# Altium footprint library Collection_Paimin.PcbLib: 48 footprints (part 1 of 3)
Each footprint in its own frame and in the unit in brackets; x right, y up, seen from the top. Pads: shape width x height; smd on the part's side, far side on the other; paste and mask are expansions set on the pad; w line width, h text height; cw(c..) or ccw(c..) is an arc to the next point about the centre after c.
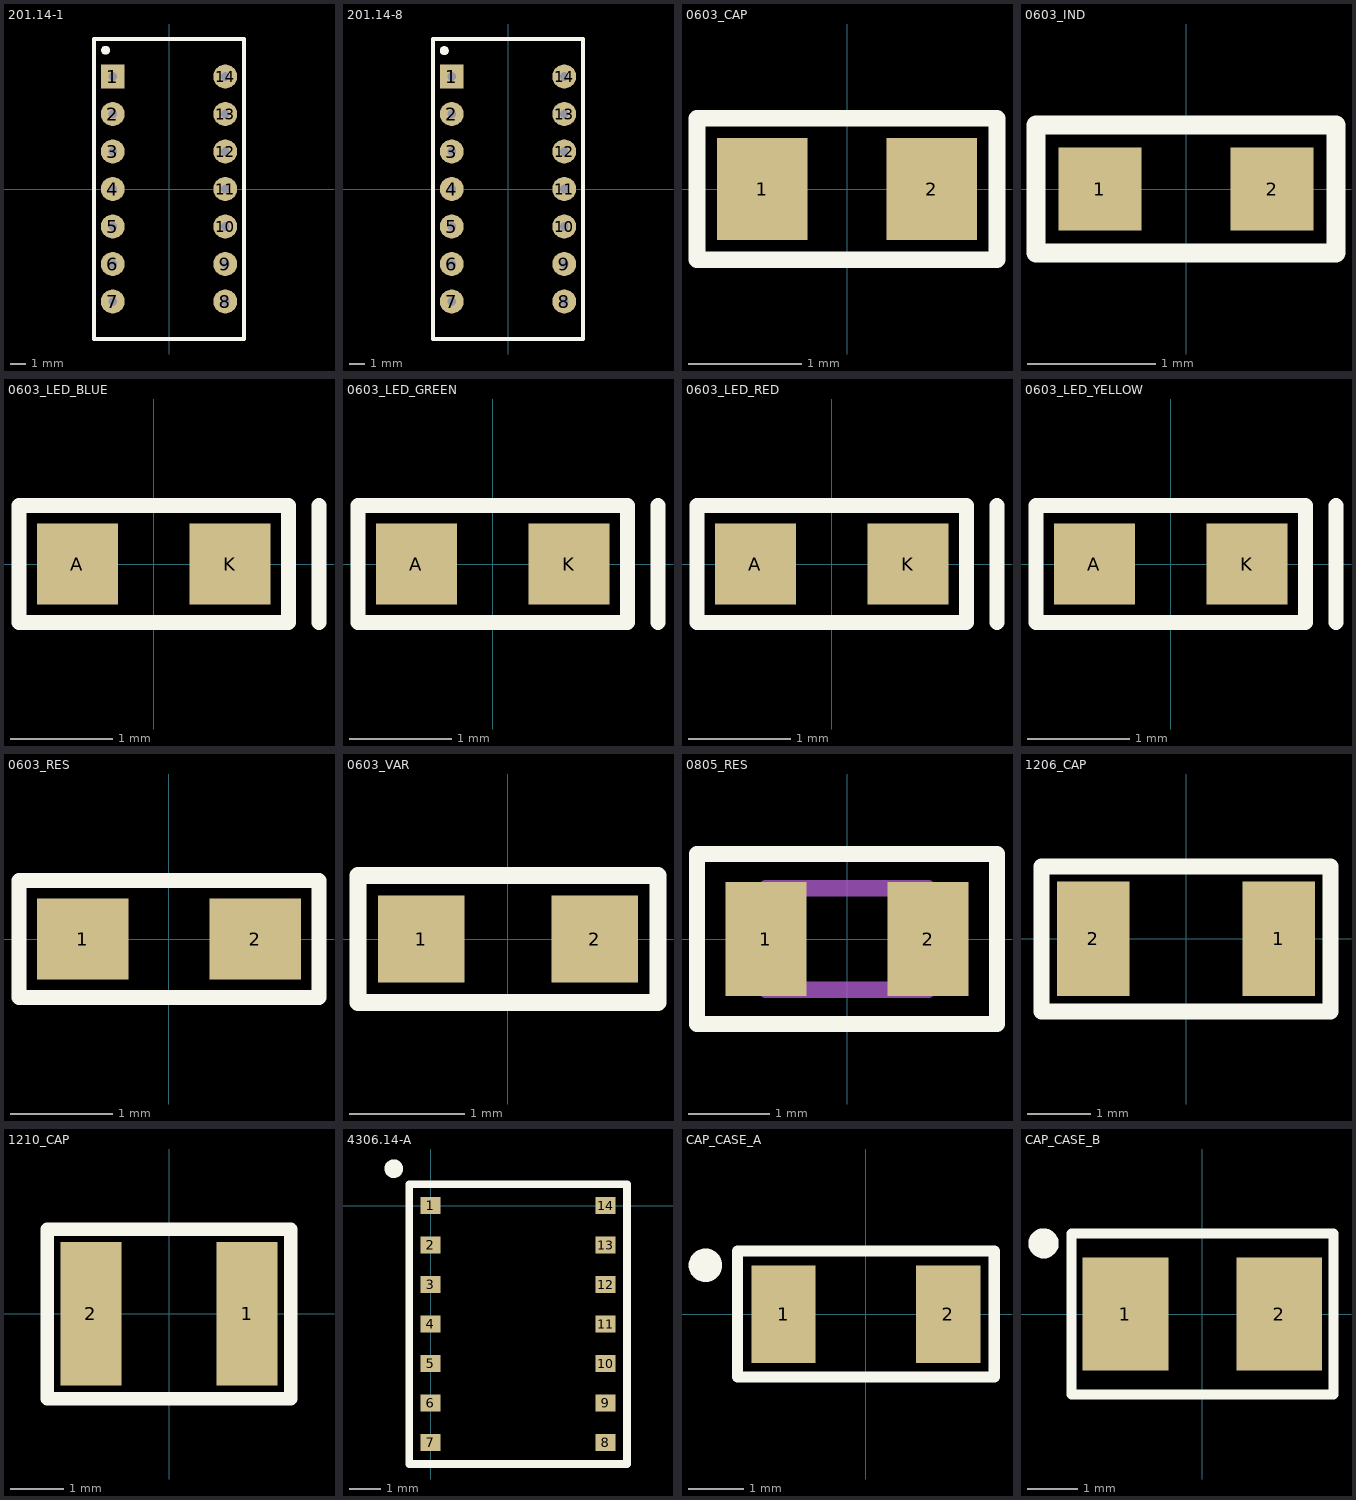
[diagram p0: the footprints below, top view; thin cyan lines are the x and y axes]

## 201.14-1 [mm]
height 5
pads (14):
  rect 1.6x1.6 / inner round 1.6 / far side rect 1.6x1.6 hole 0.6: 1(-3.75,7.5)
  round 1.6 hole 0.6: 2(-3.75,5) 3(-3.75,2.5) 4(-3.75,0) 5(-3.75,-2.5) 6(-3.75,-5) 7(-3.75,-7.5) 8(3.75,-7.5) 9(3.75,-5) 10(3.75,-2.5) 11(3.75,0) 12(3.75,2.5) 13(3.75,5) 14(3.75,7.5)
Top Overlay:
  circle w0.3: c-4.225,9.25 r0.15
  lines w0.254: -5,-10 -5,10 5,10 5,-10 -5,-10
3D body "201.14-1.stp": height 5.5, standoff -2.4, extent -3.92,-9.775 3.92,9.725

## 201.14-8 [mm]
height 5
pads (14):
  rect 1.6x1.6 / inner round 1.6 / far side rect 1.6x1.6 hole 0.6: 1(-3.75,7.5)
  round 1.6 hole 0.6: 2(-3.75,5) 3(-3.75,2.5) 4(-3.75,0) 5(-3.75,-2.5) 6(-3.75,-5) 7(-3.75,-7.5) 8(3.75,-7.5) 9(3.75,-5) 10(3.75,-2.5) 11(3.75,0) 12(3.75,2.5) 13(3.75,5) 14(3.75,7.5)
Top Overlay:
  circle w0.3: c-4.25,9.225 r0.15
  lines w0.254: -5,-10 -5,10 5,10 5,-10 -5,-10
3D body "201.14-8.stp": height 5.5, standoff -2.4, extent -3.875,-9.725 3.925,9.775

## 0603_CAP [mm]
height 0.8
pads (2):
  rect 0.8x0.9 smd: 1(-0.75,0) 2(0.75,0)
Top Overlay:
  lines w0.15: -1.325,-0.625 -1.325,0.625 1.325,0.625 1.325,-0.625 -1.325,-0.625
3D body "0603_CAP.step": height 0.8, standoff 0, extent -0.8,-0.4 0.8,0.4

## 0603_IND [mm]
height 0.9
pads (2):
  rect 0.65x0.65 smd: 1(-0.675,0) 2(0.675,0)
Top Overlay:
  lines w0.15: -1.175,-0.5 1.175,-0.5 1.175,0.5 -1.175,0.5 -1.175,-0.5
3D body "BLM18_0603.step": height 0.8, standoff 0, extent -0.8,-0.4 0.8,0.4

## 0603_LED_BLUE [mm]
height 0.8
pads (2):
  rect 0.8x0.8 smd: A(-0.75,0) K(0.75,0)
Top Overlay:
  lines w0.15: 1.625,-0.575 1.625,0.575 ; -1.325,-0.575 1.325,-0.575 1.325,0.575 -1.325,0.575 -1.325,-0.575
3D body "User Library-LED_0603_B.STEP": height 0.6, standoff 0, extent -0.8,-0.4 0.8,0.4

## 0603_LED_GREEN [mm]
height 0.8
pads (2):
  rect 0.8x0.8 smd: A(-0.75,0) K(0.75,0)
Top Overlay:
  lines w0.15: 1.625,-0.575 1.625,0.575 ; -1.325,-0.575 -1.325,0.575 1.325,0.575 1.325,-0.575 -1.325,-0.575
3D body "User Library-LED_0603_G.STEP": height 0.6, standoff 0, extent -0.8,-0.4 0.8,0.4

## 0603_LED_RED [mm]
height 0.8
pads (2):
  rect 0.8x0.8 smd: A(-0.75,0) K(0.75,0)
Top Overlay:
  lines w0.15: 1.625,-0.575 1.625,0.575 ; -1.325,-0.575 1.325,-0.575 1.325,0.575 -1.325,0.575 -1.325,-0.575
3D body "User Library-LED_0603_R.STEP": height 0.6, standoff 0, extent -0.8,-0.4 0.8,0.4

## 0603_LED_YELLOW [mm]
height 0.8
pads (2):
  rect 0.8x0.8 smd: A(-0.75,0) K(0.75,0)
Top Overlay:
  lines w0.15: 1.625,-0.575 1.625,0.575 ; -1.325,-0.575 -1.325,0.575 1.325,0.575 1.325,-0.575 -1.325,-0.575
3D body "User Library-LED_0603_Y.STEP": height 0.6, standoff 0, extent -0.8,-0.4 0.8,0.4

## 0603_RES [mm]
height 0.55
pads (2):
  rect 0.9x0.8 smd: 1(-0.85,0) 2(0.85,0)
Top Overlay:
  lines w0.15: -1.475,-0.575 1.475,-0.575 1.475,0.575 -1.475,0.575 -1.475,-0.575
3D body "0603_RES.step": height 0.45, standoff 0, extent -0.825,-0.41 0.775,0.41

## 0603_VAR [mm]
height 0.51
pads (2):
  rect 0.75x0.75 smd: 1(-0.75,0) 2(0.75,0)
Top Overlay:
  lines w0.15: -1.3,-0.55 1.3,-0.55 1.3,0.55 -1.3,0.55 -1.3,-0.55
3D body "CG0603MLC-05E.stp": height 0.55, standoff 0, extent -0.8,-0.4 0.8,0.4

## 0805_RES [mm] "Р1-8 (Эркон)"
height 0.65
pads (2):
  rect 1x1.4 smd mask+0.05: 1(-1,0) 2(1,0)
Top Overlay:
  lines w0.2: -1.85,-1.05 -1.85,1.05 1.85,1.05 1.85,-1.05 -1.85,-1.05
Mechanical 2:
  lines w0.2: -1,-0.625 -1,0.625 1,0.625 1,-0.625 -1,-0.625
3D body "Р1-8 0805 .stp": height 0.55, standoff 0, extent -1,-0.625 1,0.625

## 1206_CAP [mm]
height 1.3
pads (2):
  rect 1.16x1.82 smd: 1(1.475,0) 2(-1.475,0)
Top Overlay:
  lines w0.254: -2.296,-1.151 -2.296,1.15 2.3,1.15 2.3,-1.151 -2.296,-1.151
3D body "CAP-1206.step": height 0.57, standoff 0, extent -1.6,-0.81 1.6,0.81

## 1210_CAP [mm]
height 0.6
pads (2):
  rect 1.16x2.72 smd: 1(1.475,0) 2(-1.475,0)
Top Overlay:
  lines w0.254: -2.3,-1.608 -2.3,1.6 2.3,1.6 2.3,-1.608 -2.3,-1.608
3D body "CAP-1210.step": height 0.57, standoff 0, extent -1.6,-1.26 1.6,1.26

## 4306.14-A [mm]
pads (14):
  rect 0.65x0.55 smd: 1(0,0) 2(0,-1.27) 3(0,-2.54) 4(0,-3.81) 5(0,-5.08) 6(0,-6.35) 7(0,-7.62) 8(5.63,-7.62) 9(5.63,-6.35) 10(5.63,-5.08) 11(5.63,-3.81) 12(5.63,-2.54) 13(5.63,-1.27) 14(5.63,0)
Top Overlay:
  circle w0.3: c-1.185,1.19 r0.15
  lines w0.254: -0.685,-8.31 -0.685,0.69 6.315,0.69 6.315,-8.31 -0.685,-8.31
3D body "4306.14-A.stp": height 1.75, standoff -0.01, extent -0.285,-8.185 5.915,0.565

## CAP_CASE_A [mm] "Танталовый, тип А"
height 0.6
pads (2):
  rect 1.15x1.75 smd: 1(-1.475,0) 2(1.475,0)
Top Overlay:
  circle w0.3: c-2.875,0.875 r0.15
  lines w0.2: -2.3,-1.126 -2.3,1.13 2.3,1.13 2.3,-1.126 -2.3,-1.126
3D body: height 0.6, standoff 0, extent -1.1,-0.8 1.1,0.8

## CAP_CASE_B [mm] "Molded Capacitor, 2-Leads, Body 3,60x2,90mm, IPC Medium Density"
height 2
pads (2):
  rect 1.7x2.25 smd: 1(-1.525,0) 2(1.525,0)
Top Overlay:
  circle w0.3: c-3.15,1.4 r0.15
  lines w0.2: -2.6,-1.6 -2.6,1.6 2.6,1.6 2.6,-1.6 -1.2,-1.6 -2.6,-1.6
3D body "CHIP_TANT_B.step": height 2, standoff 0, extent -2.07,-1.5 2.07,1.5